# EAGLE library part JST-GH-6 (library bschulz)
JST-GH Connector, 6 pos 6 Position JST-GH Style connector (used for some PixHawk and GPS connections) Digikey: 455-1568-1-ND (Side Entry) <https://www.digikey.com/product-detail/en/jst-sales-america-inc/SM06B-GHS-TB-LF-SN/455-1568-1-ND/807836> 455-1582-1-ND (Verticle Entry) <https://www.digikey.com/product-detail/en/jst-sales-america-inc/BM06B-GHS-TBT-LF-SN-N/455-1582-1-ND/807850>
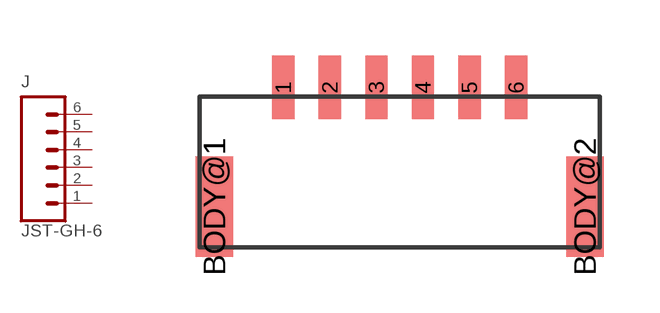
[diagram p79: symbol with the pads of JST-GH-6; footprint JST-GH-6]

Designator prefix J

## JST-GH-6SIDE (DIGIKEY: 455-1582-1-ND; MF: JST; MPN: BM06B-GHS-TBT(LF)(SN)(N))  [JST-GH-6]
1  1  pas
2  2  pas
3  3  pas
4  4  pas
5  5  pas
6  6  pas

## Footprint JST-GH-6 (pad centres in mm)
smd 0.6 x 1.7: 1 -3.125,4.55; 2 -1.875,4.55; 3 -0.625,4.55; 4 0.625,4.55; 5 1.875,4.55; 6 3.125,4.55
smd 1 x 2.7: BODY@1 -4.975,1.35; BODY@2 4.975,1.35